# Altium integrated library EEUFS1K470.IntLib: 1 symbol
Pins are listed as number, name and electrical type; pins without a type are passive.

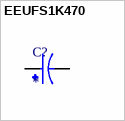
[diagram p0: symbol EEUFS1K470]

## EEUFS1K470
designator C?
Cap Aluminum Lytic 47uF 80V 20% (8 X 11.5mm) Radial 3.5mm 490mA 6000h 105C Bulk; MF: Panasonic Electronic Components; MP: EEU-FS1K470; Purchase-URL: https://pricing.snapeda.com/search/part/EEU-FS1K470/?ref=eda; Package: RADIAL-2 Panasonic; Value: *; Price: None; SnapEDA_Link: https://www.snapeda.com/parts/EEU-FS1K470/Panasonic/view-part/6221322/?ref=snap; Check_prices: https://www.snapeda.com/parts/EEU-FS1K470/Panasonic/view-part/6221322/?ref=eda
footprint CAPPRD350W60D800H1150
pins: N, P